# EAGLE library part 1X14 (library connectors)
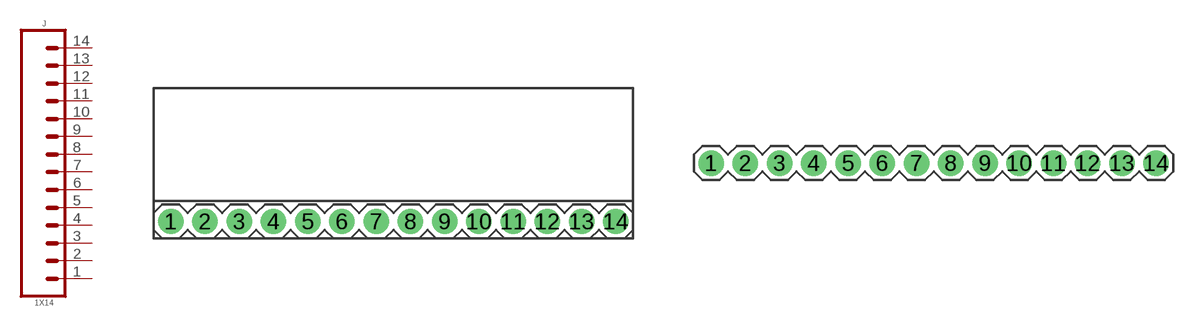
[diagram p0: symbol with the pads of 1X14-RA-MALE; footprints 1X14-RA-MALE, 1X14-VERT-MALE]

Designator prefix J

## 1X14RA-MALE (CREATOR: MrSwirlyEyes; DATASHEET: http://www.sullinscorp.com/catalogs/77_PAGE108-109_.100_MALE_HDR.pdf; DIST: Digikey; DISTLINK: https://www.digikey.com/products/en?keywords=S1112E-14-ND; DISTPN: S1112E-14-ND; MFR: Sullins Connector Solutions; MPN: PEC14SBAN; TESTED: NO; VALUE: 1x14-RA-MALE)  [1X14-RA-MALE]
1  1  pas
2  2  pas
3  3  pas
4  4  pas
5  5  pas
6  6  pas
7  7  pas
8  8  pas
9  9  pas
10  10  pas
11  11  pas
12  12  pas
13  13  pas
14  14  pas

## 1X14VERT-MALE (CREATOR: MrSwirlyEyes; DATASHEET: http://www.sullinscorp.com/catalogs/77_PAGE108-109_.100_MALE_HDR.pdf; DIST: Digikey; DISTLINK: https://www.digikey.com/products/en?keywords=PEC14SAAN; DISTPN: S1012E-14-ND; MFR: Sullins Connector Solutions; MPN: PEC14SAAN; TESTED: NO; VALUE: 1x14-VERT-MALE)  [1X14-VERT-MALE]
Pads as for 1X14-RA-MALE

## 1X14VERT-FEMALE (CREATOR: MrSwirlyEyes; DATASHEET: http://sullinscorp.com/catalogs/101_PAGE114-115_.100_FEMALE_HDR.pdf; DIST: Digikey; DISTLINK: https://www.digikey.com/products/en?keywords=PPPC141LFBN-RC; DISTPN: S7047-ND; MFR: Sullins Connector Solutions; MPN: PPPC141LFBN-RC; VALUE: 1X14-VERT-FEMALE)  [1X14-VERT-FEMALE]
Pads as for 1X14-RA-MALE

## Footprint 1X14-RA-MALE (pad centres in mm)
drill 1.016 pad 1.88: 1 -16.51,0; 2 -13.97,0; 3 -11.43,0; 4 -8.89,0; 5 -6.35,0; 6 -3.81,0; 7 -1.27,0; 8 1.27,0; 9 3.81,0; 10 6.35,0; 11 8.89,0; 12 11.43,0; 13 13.97,0; 14 16.51,0

## Footprint 1X14-VERT-MALE (pad centres in mm)
drill 1.016 pad 1.88: 1 -16.51,0; 2 -13.97,0; 3 -11.43,0; 4 -8.89,0; 5 -6.35,0; 6 -3.81,0; 7 -1.27,0; 8 1.27,0; 9 3.81,0; 10 6.35,0; 11 8.89,0; 12 11.43,0; 13 13.97,0; 14 16.51,0

## Footprint 1X14-VERT-FEMALE (pad centres in mm)
drill 1.016 pad 1.88: 1 -16.51,0; 2 -13.97,0; 3 -11.43,0; 4 -8.89,0; 5 -6.35,0; 6 -3.81,0; 7 -1.27,0; 8 1.27,0; 9 3.81,0; 10 6.35,0; 11 8.89,0; 12 11.43,0; 13 13.97,0; 14 16.51,0